# Altium footprint library TNY267PN.PcbLib: 1 footprints
Each footprint in its own frame and in the unit in brackets; x right, y up, seen from the top. Pads: shape width x height; smd on the part's side, far side on the other; paste and mask are expansions set on the pad; w line width, h text height; cw(c..) or ccw(c..) is an arc to the next point about the centre after c.
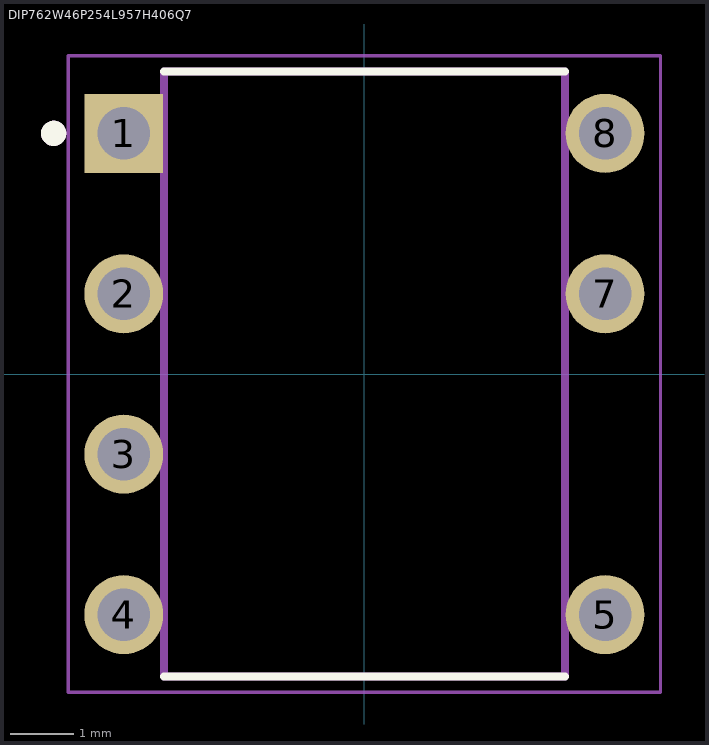
[diagram p0: the footprint, top view; thin cyan lines are the x and y axes]

## DIP762W46P254L957H406Q7 [mm]
pads (7):
  rect 1.25x1.25 hole 0.83: 1(-3.81,3.81)
  round 1.25 hole 0.83: 2(-3.81,1.27) 3(-3.81,-1.27) 4(-3.81,-3.81) 5(3.81,-3.81) 7(3.81,1.27) 8(3.81,3.81)
Top Overlay:
  circle w0.2: c-4.92,3.81 r0.1
  lines w0.127: -3.175,-4.788 3.175,-4.788 ; -3.175,4.788 3.175,4.788
Mechanical 13:
  circle w0.2: c-4.92,3.81 r0.1
  lines w0.127: -3.175,-4.788 -3.175,4.788 3.175,4.788 3.175,-4.788 -3.175,-4.788
Mechanical 15:
  lines w0.05: -4.69,-5.038 -4.69,5.038 4.69,5.038 4.69,-5.038 -4.69,-5.038
3D body "step_temp.STEP": height 4.06, standoff -3.56, extent -4.718,-4.527 4.718,4.527